# EAGLE library part LM5175 (library everykey)
TI 4-switch buck-boost regulator
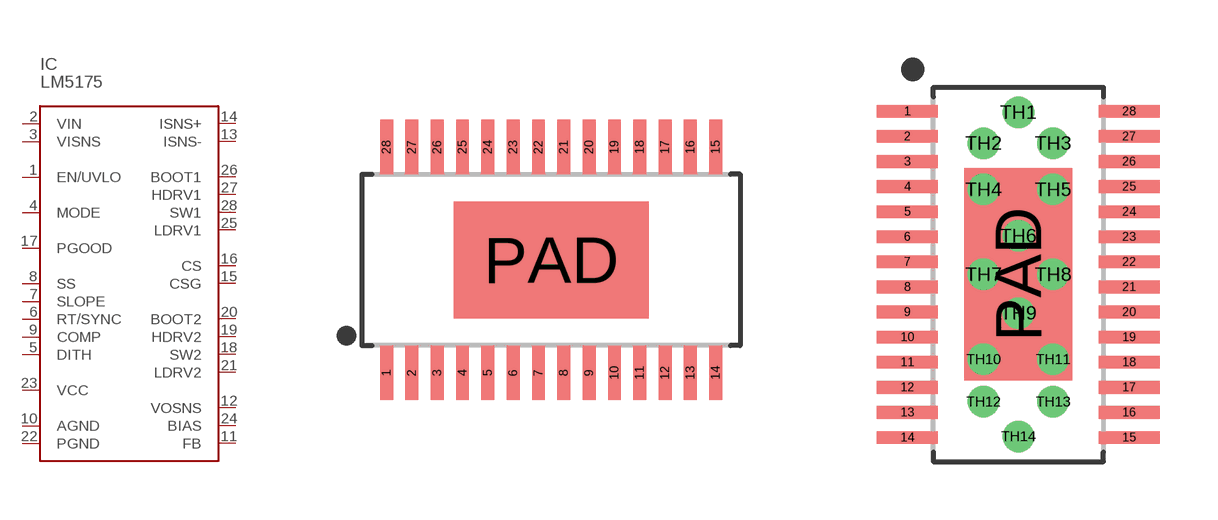
[diagram p74: symbol with the pads of TSSOP28-0.65-PAD; footprints TSSOP28-0.65-PAD, HTSSOP28-0.65-EP-VIAS]

Designator prefix IC

## LM5175TSSOP28  [TSSOP28-0.65-PAD]
1  EN/UVLO  in
2  VIN  in
3  VISNS  in
4  MODE  in
5  DITH  in
6  RT/SYNC  in
7  SLOPE  in
8  SS  in
9  COMP  in
10  AGND  pwr
11  FB  in
12  VOSNS  in
13  ISNS-  in
14  ISNS+  in
15  CSG  pas
16  CS  pas
17  PGOOD  out
18  SW2  in
19  HDRV2  out
20  BOOT2  in
21  LDRV2  out
22  PGND  pwr
23  VCC  out
24  BIAS  in
25  LDRV1  out
26  BOOT1  in
27  HDRV1  out
28  SW1  in

## LM5175TSSOP28-VIAS  [HTSSOP28-0.65-EP-VIAS]
1  EN/UVLO  in
2  VIN  in
3  VISNS  in
4  MODE  in
5  DITH  in
6  RT/SYNC  in
7  SLOPE  in
8  SS  in
9  COMP  in
10  AGND  pwr
11  FB  in
12  VOSNS  in
13  ISNS-  in
14  ISNS+  in
15  CSG  pas
16  CS  pas
17  PGOOD  out
18  SW2  in
19  HDRV2  out
20  BOOT2  in
21  LDRV2  out
22  PGND  pwr
23  VCC  out
24  BIAS  in
25  LDRV1  out
26  BOOT1  in
27  HDRV1  out
28  SW1  in
PAD  AGND  pwr
TH1  AGND  pwr
TH2  AGND  pwr
TH3  AGND  pwr
TH4  AGND  pwr
TH5  AGND  pwr
TH6  AGND  pwr
TH7  AGND  pwr
TH8  AGND  pwr
TH9  AGND  pwr
TH10  AGND  pwr
TH11  AGND  pwr
TH12  AGND  pwr
TH13  AGND  pwr
TH14  AGND  pwr

## Footprint TSSOP28-0.65-PAD (pad centres in mm)
28-pin Thin Shrink Small Outline Package with Exposed Thermal Pad
smd 0.33 x 1.4: 1 -4.225,-2.9; 2 -3.575,-2.9; 3 -2.925,-2.9; 4 -2.275,-2.9; 5 -1.625,-2.9; 6 -0.975,-2.9; 7 -0.325,-2.9; 8 0.325,-2.9; 9 0.975,-2.9; 10 1.625,-2.9; 11 2.275,-2.9; 12 2.925,-2.9; 13 3.575,-2.9; 14 4.225,-2.9; 15 4.225,2.9; 16 3.575,2.9; 17 2.925,2.9; 18 2.275,2.9; 19 1.625,2.9; 20 0.975,2.9; 21 0.325,2.9; 22 -0.325,2.9; 23 -0.975,2.9; 24 -1.625,2.9; 25 -2.275,2.9; 26 -2.925,2.9; 27 -3.575,2.9; 28 -4.225,2.9
smd 5 x 3: PAD 0,0

## Footprint HTSSOP28-0.65-EP-VIAS (pad centres in mm)
HTSSOP28 package, 0.65mm pitch, with exposed pad (no thermals) and vias on pad. Recommended sizes, optimized for 12mil spacing (thick copper).
smd 1.58 x 0.33: 1 -2.87,4.225; 2 -2.87,3.575; 3 -2.87,2.925; 4 -2.87,2.275; 5 -2.87,1.625; 6 -2.87,0.975; 7 -2.87,0.325; 8 -2.87,-0.325; 9 -2.87,-0.975; 10 -2.87,-1.625; 11 -2.87,-2.275; 12 -2.87,-2.925; 13 -2.87,-3.575; 14 -2.87,-4.225; 15 2.87,-4.225; 16 2.87,-3.575; 17 2.87,-2.925; 18 2.87,-2.275; 19 2.87,-1.625; 20 2.87,-0.975; 21 2.87,-0.325; 22 2.87,0.325; 23 2.87,0.975; 24 2.87,1.625; 25 2.87,2.275; 26 2.87,2.925; 27 2.87,3.575; 28 2.87,4.225
smd 2.8 x 5.5: PAD 0,0
drill 0.305: TH1 0,4.2; TH2 -0.9,3.4; TH3 0.9,3.4; TH4 -0.9,2.2; TH5 0.9,2.2; TH6 0,1; TH7 -0.9,0; TH8 0.9,0; TH9 0,-1; TH10 -0.9,-2.2; TH11 0.9,-2.2; TH12 -0.9,-3.3; TH13 0.9,-3.3; TH14 0,-4.2